# Altium footprint library USB113015A.PcbLib: 1 footprints
Each footprint in its own frame and in the unit in brackets; x right, y up, seen from the top. Pads: shape width x height; smd on the part's side, far side on the other; paste and mask are expansions set on the pad; w line width, h text height; cw(c..) or ccw(c..) is an arc to the next point about the centre after c.
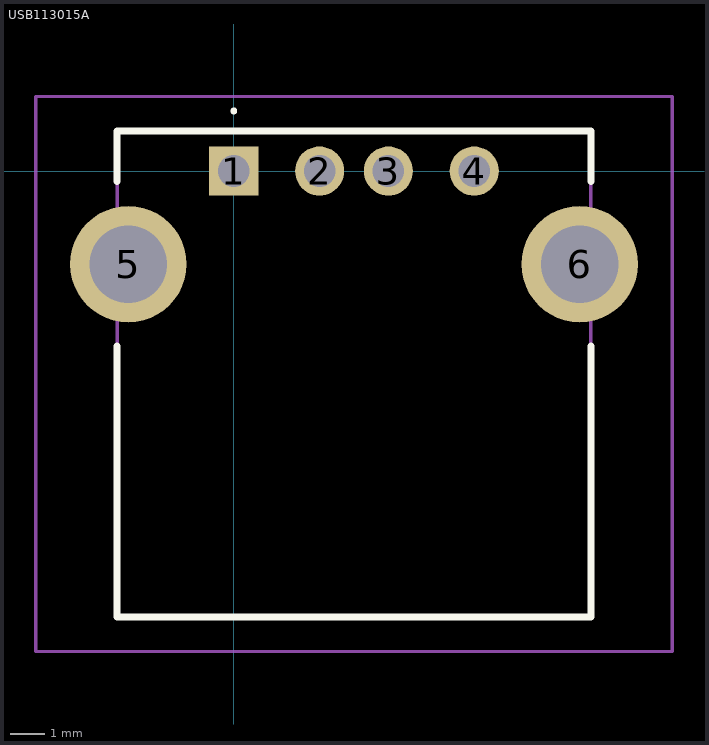
[diagram p0: the footprint, top view; thin cyan lines are the x and y axes]

## USB113015A [mm]
pads (6):
  rect 1.431x1.431 hole 0.92: 1(0,0)
  round 1.431 hole 0.92: 2(2.5,0) 3(4.5,0) 4(7,0)
  round 3.39 hole 2.26: 5(-3.07,-2.71) 6(10.07,-2.71)
Top Overlay:
  lines w0.1: 0,1.7 cw(c0,1.75) 0,1.8 ; 0,1.7 0,1.7 ; 0,1.7 ccw(c0,1.75) 0,1.8 ; 0,1.8 0,1.8
  lines w0.2: -3.4,-5.1 -3.4,-12.99 10.4,-12.99 10.4,-5.1 ; -3.4,-0.3 -3.4,1.17 10.4,1.17 10.4,-0.3
Mechanical 15:
  lines w0.1: -3.4,-12.99 10.4,-12.99 10.4,1.17 -3.4,1.17 -3.4,-12.99
Mechanical 20:
  lines w0.1: -5.765,-13.99 12.765,-13.99 12.765,2.17 -5.765,2.17 -5.765,-13.99